# EAGLE library part SX126* (library IC_Wireless-RF)
SX1261/62/68 - Long Range, Low Power, sub-GHz RF Transceiver SX1261/62 Datasheet <https://semtech.my.salesforce.com/sfc/p/#E0000000JelG/a/2R000000HT76/7Nka9W5WgugoZe.xwIHJy6ebj1hW8UJ.USO_Pt2CLLo> SX1268 Datasheet <https://semtech.my.salesforce.com/sfc/p/#E0000000JelG/a/2R000000HTIE/.wr7MYcDJegmsXUflvtVGp7PiqAzdCaqRKXqRr3J8Y4> Product Page <https://www.semtech.com/products/wireless-rf/lora-core/sx1261>
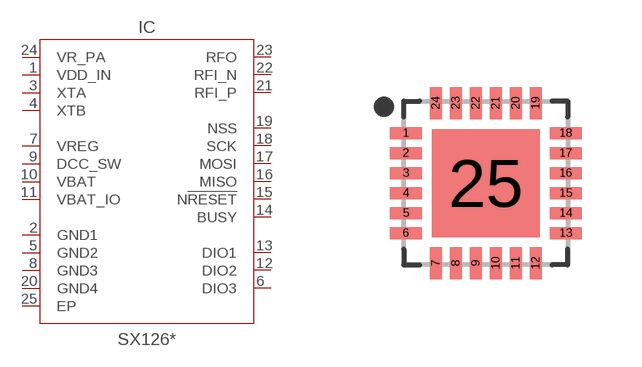
[diagram p15: symbol with the pads of QFN50P400X400X100-25T270; footprint QFN50P400X400X100-25T270]

Designator prefix IC

## SX1261 (CATEGORY: IC_Wireless-RF; DESCRIPTION: IC RF TXRX ISM<1GHZ 24VFQFN; FREQUENCY: 150 MHz - 960 MHz; MANUFACTURER: Semtech; MPN: SX1261IMLTRT; OPERATING_TEMP: -40°C to 85°C; PART_STATUS: Active; SERIES: SX1261; SUB-CATEGORY: Transceiver; TYPE: LoRa Core™; VALUE: SX1261), SX1262 (CATEGORY: IC_Wireless-RF; DESCRIPTION: IC RF TXRX ISM<1GHZ 24VFQFN; FREQUENCY: 150 MHz - 960 MHz; MANUFACTURER: Semtech; MPN: SX1262IMLTRT; OPERATING_TEMP: -40°C to 85°C; PART_STATUS: Active; SERIES: SX1262; SUB-CATEGORY: Transceiver; TYPE: LoRa Core™; VALUE: SX1262), SX1268 (CATEGORY: IC_Wireless-RF; DESCRIPTION: IC RF TXRX ISM 780MHZ 24VFQFN; FREQUENCY: 410 MHz - 810 MHz; MANUFACTURER: Semtech; MPN: SX1268IMLTRT; OPERATING_TEMP: -40°C to 85°C; PART_STATUS: Active; SERIES: SX1268; SUB-CATEGORY: Transceiver; TYPE: LoRa Core™; VALUE: SX1268)  [QFN50P400X400X100-25T270]
1  VDD_IN
2  GND1
3  XTA
4  XTB
5  GND2
6  DIO3
7  VREG
8  GND3
9  DCC_SW
10  VBAT
11  VBAT_IO
12  DIO2
13  DIO1
14  BUSY
15  N!RESET!
16  MISO
17  MOSI
18  SCK
19  NSS
20  GND4
21  RFI_P
22  RFI_N
23  RFO
24  VR_PA
25  EP

## Footprint QFN50P400X400X100-25T270 (pad centres in mm)
24-QFN, 0.50 mm pitch, 4.00 X 4.00 X 1.00 mm body, 2.70 X 2.70 mm thermal pad 24-pin QFN package with 0.50 mm pitch with body size 4.00 X 4.00 X 1.00 mm and thermal pad size 2.70 X 2.70 mm
smd 0.8 x 0.3: 1 -2,1.25; 2 -2,0.75; 3 -2,0.25; 4 -2,-0.25; 5 -2,-0.75; 6 -2,-1.25; 13 2,-1.25; 14 2,-0.75; 15 2,-0.25; 16 2,0.25; 17 2,0.75; 18 2,1.25
smd 0.3 x 0.8: 7 -1.25,-2; 8 -0.75,-2; 9 -0.25,-2; 10 0.25,-2; 11 0.75,-2; 12 1.25,-2; 19 1.25,2; 20 0.75,2; 21 0.25,2; 22 -0.25,2; 23 -0.75,2; 24 -1.25,2
smd 2.7 x 2.7: 25 0,0